# EAGLE library part OEM_1B-LED (library 1A-meinLib)
OEM 1B-LED, 3 !/" Digit LED Voltmeter Module, LASCAR (RS-Component 446-2137)
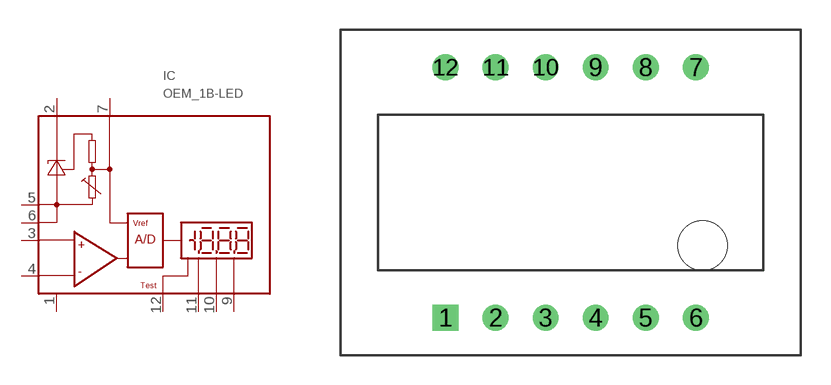
[diagram p186: symbol with the pads of OEM_1B-LED; footprint OEM_1B-LED]

Designator prefix IC

## OEM_1B-LED  [OEM_1B-LED]
1  0V  pwr
2  V+  pwr
3  IHI  in
4  ILO  in
5  COM  pas
6  RLO  pas
7  RHI  pas
9  DP1  pas
10  DP2  pas
11  DP3  pas
12  TEST  pas

## Footprint OEM_1B-LED (pad centres in mm)
OEM 1B-LED, 3 1/" digit LED (LCR) Voltmeter Module, LASCAR
drill 0.8 square: 1 -6.35,-6.35
drill 0.8 round: 2 -3.81,-6.35; 3 -1.27,-6.35; 4 1.27,-6.35; 5 3.81,-6.35; 6 6.35,-6.35; 7 6.35,6.35; 8 3.81,6.35; 9 1.27,6.35; 10 -1.27,6.35; 11 -3.81,6.35; 12 -6.35,6.35
hole 2.5 at 6.7,-2.7